# EAGLE library part OCXO_SMD (library NewSDR)
Connor Winfield OCXO SMD
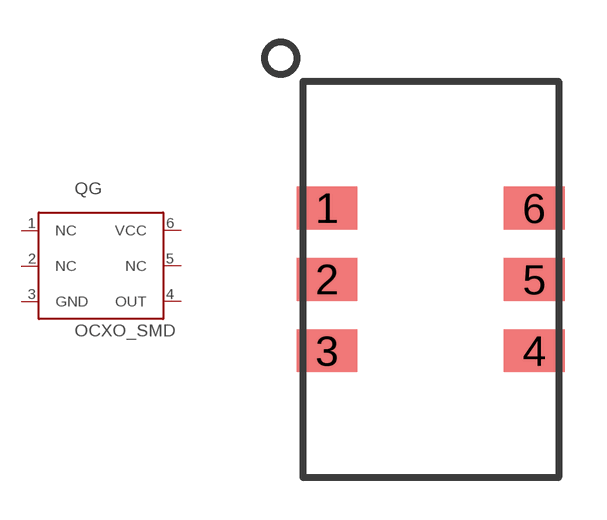
[diagram p205: symbol with the pads of OCXO_SMD; footprint OCXO_SMD]

Designator prefix QG

## OCXO_SMD  [OCXO_SMD]
1  NC  nc
2  NC  nc
3  GND  pwr
4  OUT  out
5  NC  nc
6  VCC  pwr

## Footprint OCXO_SMD (pad centres in mm)
Connor Winfield OCXO SMD Package
smd 2.159 x 1.524: 1 -3.683,2.54; 2 -3.683,0; 3 -3.683,-2.54; 4 3.683,-2.54; 5 3.683,0; 6 3.683,2.54